# Altium schematic symbol library CR0402-FX-1002GLF.SchLib: 1 symbol
Pins are listed as number, name and electrical type; pins without a type are passive.

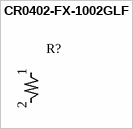
[diagram p0: symbol CR0402-FX-1002GLF]

## CR0402-FX-1002GLF
designator R?
Manufacturer_Name: Bourns Electronics; Manufacturer_Part_Number: CR0402-FX-1002GLF
pins: 1, 2